# Altium footprint library SOIC-8.PcbLib: 1 footprints
Each footprint in its own frame and in the unit in brackets; x right, y up, seen from the top. Pads: shape width x height; smd on the part's side, far side on the other; paste and mask are expansions set on the pad; w line width, h text height; cw(c..) or ccw(c..) is an arc to the next point about the centre after c.
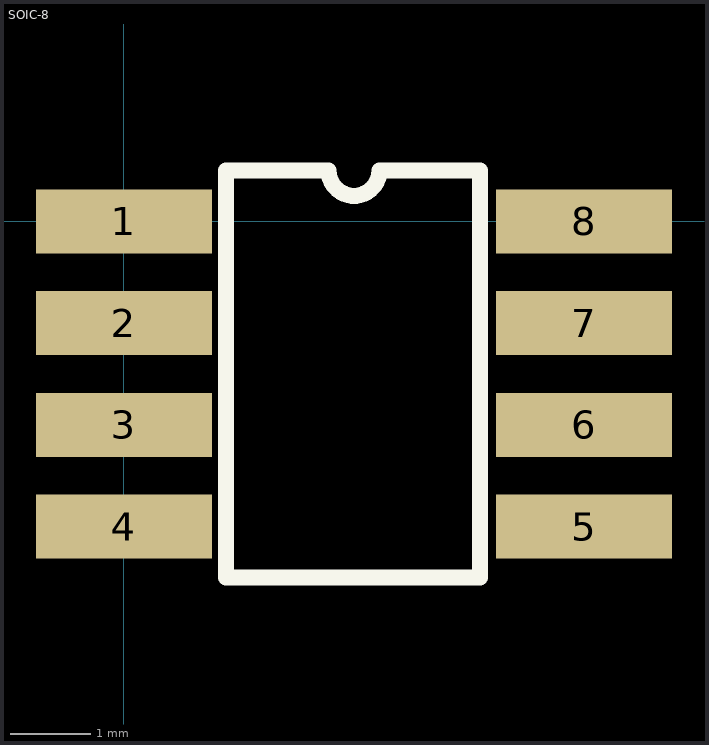
[diagram p0: the footprint, top view; thin cyan lines are the x and y axes]

## SOIC-8 [mm]
pads (8):
  rect 2.2x0.8 smd: 1(0,0) 2(0,-1.27) 3(0,-2.54) 4(0,-3.81) 5(5.74,-3.81) 6(5.74,-2.54) 7(5.74,-1.27) 8(5.74,0)
Top Overlay:
  lines w0.2: 1.27,-4.445 1.27,0.635 2.552,0.635 ccw(c2.87,0.635) 3.187,0.635 4.445,0.635 4.445,-4.445 1.27,-4.445
3D body "SOIC-8.STEP": height 1.75, standoff 0, extent -0.127,-4.355 5.873,0.545